# Altium footprint library 1K_Res_CRS2010AFX-1001ELF.PcbLib: 1 footprints
Each footprint in its own frame and in the unit in brackets; x right, y up, seen from the top. Pads: shape width x height; smd on the part's side, far side on the other; paste and mask are expansions set on the pad; w line width, h text height; cw(c..) or ccw(c..) is an arc to the next point about the centre after c.
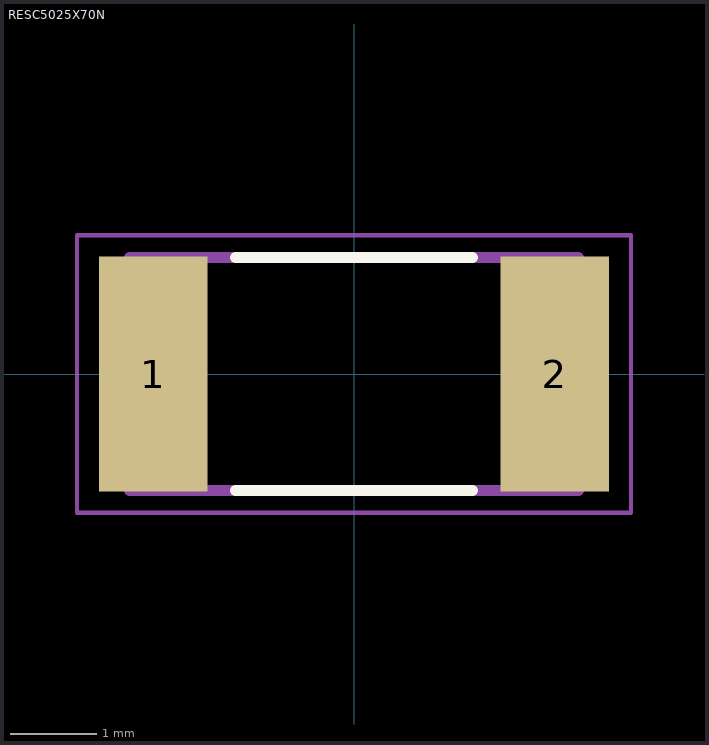
[diagram p0: the footprint, top view; thin cyan lines are the x and y axes]

## RESC5025X70N [mm]
pads (2):
  rect 1.26x2.72 smd: 1(-2.325,0) 2(2.325,0)
Top Overlay:
  lines w0.127: -1.37,-1.35 1.37,-1.35 ; -1.37,1.35 1.37,1.35
Mechanical 13:
  lines w0.127: -2.6,-1.35 -2.6,1.35 2.6,1.35 2.6,-1.35 -2.6,-1.35
Mechanical 15:
  lines w0.05: -3.208,-1.608 -3.208,1.608 3.208,1.608 3.208,-1.608 -3.208,-1.608
3D body "CRS2010AFX-1001ELF.STEP": height 0.7, standoff 0, extent -2.5,-1.25 2.5,1.25